# Altium footprint library 调试烧写.PcbLib: 8 footprints
Each footprint in its own frame and in the unit in brackets; x right, y up, seen from the top. Pads: shape width x height; smd on the part's side, far side on the other; paste and mask are expansions set on the pad; w line width, h text height; cw(c..) or ccw(c..) is an arc to the next point about the centre after c.
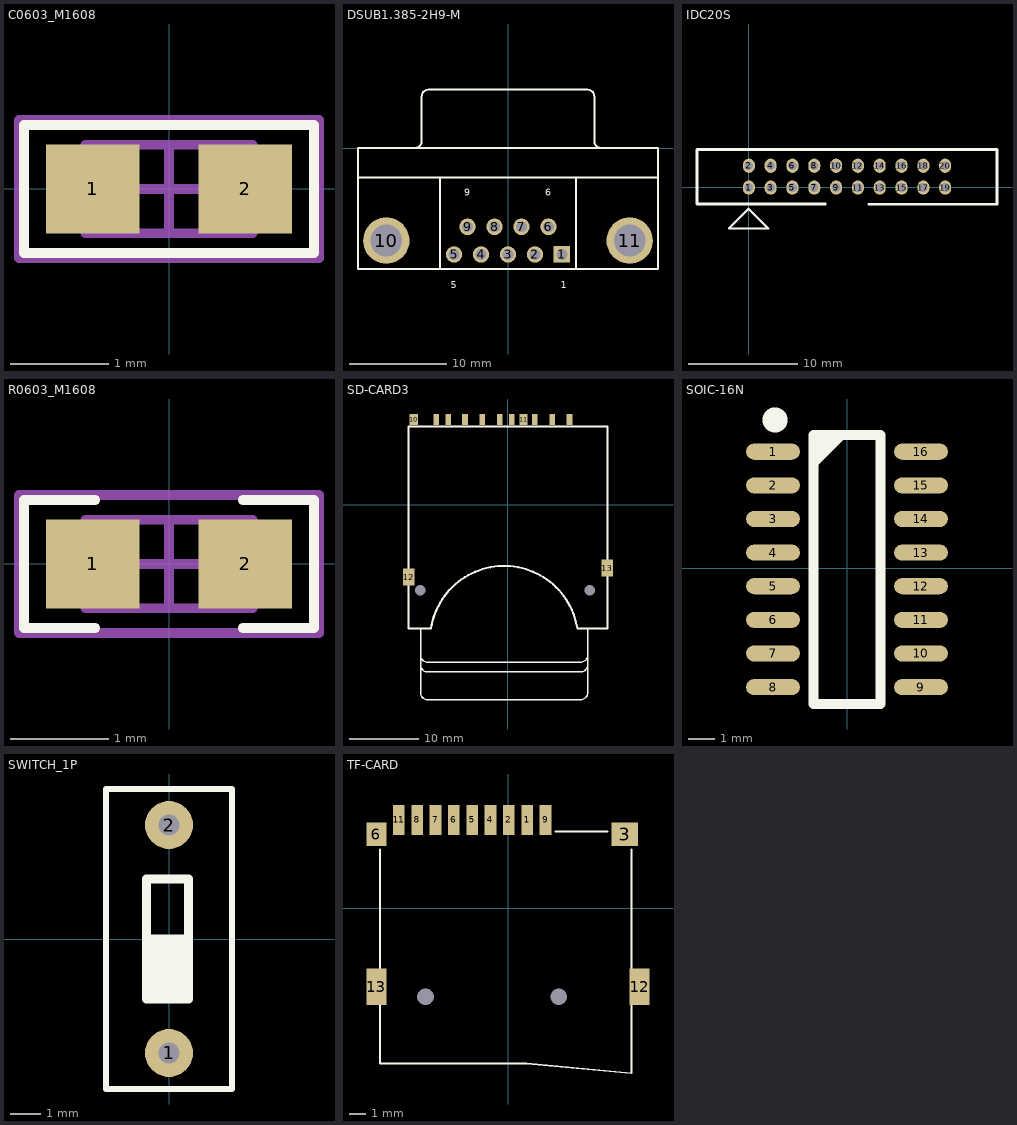
[diagram p0: the footprints below, top view; thin cyan lines are the x and y axes]

## C0603_M1608 [mm] "Chip Capacitor, 2-Leads, Body 1.6x0.8mm, IPC Medium Density"
height 0.55
pads (2):
  rect 0.95x0.9 smd: 1(-0.775,0) 2(0.775,0)
Top Overlay:
  lines w0.1: -1.475,-0.65 -1.475,0.65 1.475,0.65 1.475,-0.65 -1.475,-0.65
Mechanical 13:
  lines w0.1: -0.85,-0.45 0.85,-0.45 0.85,0.45 -0.85,0.45 -0.85,-0.45
Mechanical 15:
  lines w0.1: -0.45,0 0.45,0 ; 0,-0.45 0,0.45 ; -1.525,-0.7 1.525,-0.7 1.525,0.7 -1.525,0.7 -1.525,-0.7
3D body: height 0.55, standoff 0, extent -0.85,-0.45 0.85,0.45

## DSUB1.385-2H9-M [mm] "Connector; D Subminiature; 9 Position; Right Angle; Pitch 1.385 mm"
height 12.75
pads (11):
  rect 1.69x1.69 hole 1.09: 1(5.54,-10.92)
  round 1.69 hole 1.09: 2(2.77,-10.92) 3(0,-10.92) 4(-2.77,-10.92) 5(-5.54,-10.92) 6(4.155,-8.08) 7(1.385,-8.08) 8(-1.385,-8.08) 9(-4.155,-8.08)
  round 4.76 hole 3.26: 10(-12.495,-9.5) 11(12.495,-9.5)
Top Overlay:
  lines w0.2: -15.4,-3 15.4,-3 ; -9.56,0.005 ccw(c-9.56,0.7) -8.865,0.7 -8.865,5.3 ; -8.86,5.305 cw(c-8.165,5.305) -8.165,6 8.165,6 cw(c8.165,5.305) 8.86,5.305 ; -7,-12.4 -7,-3 ; 7,-12.4 7,-3 ; 8.865,5.3 8.865,0.7 ccw(c9.56,0.7) 9.56,0.005 ; -15.4,-12.4 15.4,-12.4 15.4,0 -15.4,0 -15.4,-12.4
  text "6" at 3.8,-4.9 h0.7
  text "9" at -4.5,-4.9 h0.7
  text "5" at -5.9,-14.4 h0.7
  text "1" at 5.4,-14.4 h0.7

## IDC20S [mm]
pads (20):
  oval 1.1x1.3 hole 0.8: 1(0.01,-0.025) 2(0.01,1.975) 3(2.01,-0.025) 4(2.01,1.975) 5(4.01,-0.025) 6(4.01,1.975) 7(6.01,-0.025) 8(6.01,1.975) 9(8.01,-0.025) 10(8.01,1.975) 11(10.01,-0.025) 12(10.01,1.975) 13(12.01,-0.025) 14(12.01,1.975) 15(14.01,-0.025) 16(14.01,1.975) 17(16.01,-0.025) 18(16.01,1.975) 19(18.01,-0.025) 20(18.01,1.975)
Top Overlay:
  lines w0.2: -1.818,-3.783 -0.012,-1.968 1.802,-3.774 -1.818,-3.783
  lines w0.254: 7.01,-1.525 -4.74,-1.525 -4.74,3.475 22.76,3.475 22.76,-1.55 11.01,-1.55

## R0603_M1608 [mm] "Chip Capacitor, 2-Leads, Body 1.6x0.8mm, IPC Medium Density"
height 0.55
pads (2):
  rect 0.95x0.9 smd: 1(-0.775,0) 2(0.775,0)
Top Overlay:
  lines w0.1: -0.75,-0.65 -1.475,-0.65 -1.475,0.65 -0.75,0.65 ; 0.75,-0.65 1.475,-0.65 1.475,0.65 0.75,0.65
Mechanical 13:
  lines w0.1: -0.85,-0.45 0.85,-0.45 0.85,0.45 -0.85,0.45 -0.85,-0.45
Mechanical 15:
  lines w0.1: -0.45,0 0.45,0 ; 0,-0.45 0,0.45 ; -1.525,-0.7 1.525,-0.7 1.525,0.7 -1.525,0.7 -1.525,-0.7
3D body: height 0.55, standoff 0, extent -0.85,-0.45 0.85,0.45

## SD-CARD3 [mm]
pads (15):
  rect 0.8x1.6 smd: 1(6.33,12.25) 2(3.83,12.25) 3(0.53,12.25) 4(-1.17,12.25) 5(-3.67,12.25) 6(-6.17,12.25) 7(-8.6,12.25) 8(-10.3,12.25) 9(8.83,12.25)
  rect 1.2x1.6 smd: 10(-13.55,12.25) 11(2.23,12.25)
  rect 1.6x2.4 smd: 12(-14.25,-10.35) 13(14.25,-9.05)
  round 1 hole 1.5: 14(-12.6,-12.25) 15(11.7,-12.25)
Top Overlay:
  lines w0.2: -12.55,-22.95 ccw(c-11.55,-22.95) -11.55,-23.95 10.45,-23.95 ccw(c10.45,-22.95) 11.45,-22.95 ; -12.55,-21.55 ccw(c-11.55,-21.55) -11.55,-22.55 10.45,-22.55 ccw(c10.45,-21.55) 11.45,-21.55 ; -12.55,-17.75 -12.55,-26.95 ccw(c-11.55,-26.95) -11.55,-27.95 10.45,-27.95 ccw(c10.45,-26.95) 11.45,-26.95 11.45,-17.75
  lines w0.3: -11.05,-17.75 -14.3,-17.75 -14.3,11.25 14.3,11.25 14.3,-17.75 9.95,-17.75 ; -11.05,-17.748 cw(c-0.55,-19.374) 9.95,-17.748

## SOIC-16N [mil]
height 200
pads (16):
  oval 80x24 smd: 1(-110.24,173.23) 2(-110.24,123.23) 3(-110.24,73.23) 4(-110.24,23.23) 5(-110.24,-26.77) 6(-110.24,-76.77) 7(-110.24,-126.77) 8(-110.24,-176.77) 9(109.76,-176.77) 10(109.76,-126.77) 11(109.76,-76.77) 12(109.76,-26.77) 13(109.76,23.23) 14(109.76,73.23) 15(109.76,123.23) 16(109.76,173.23)
Top Overlay:
  circle w19.68: c-107.23,220.47 r8.8
  region: -43.31,192.91 -3.94,192.91 -43.31,153.54
  lines w15: -50.24,-201.77 49.76,-201.77 49.76,198.23 -50.24,198.23 -50.24,-201.77

## SWITCH_1P [mm]
pads (2):
  round 1.6 hole 0.7: 1(0,-3.8) 2(0,3.8)
Top Overlay:
  lines w0.2: -2.1,-5 -2.1,5 2.1,5 2.1,-5 -2.1,-5
  lines w0.3: -0.75,0 0.65,0 ; -0.75,0 -0.75,-2 0.65,-2 0.65,0 ; -0.75,0 0.65,0 ; -0.75,0 -0.75,2 0.65,2 0.65,0
  lines w1: -0.25,-1.5 0.25,-1.5 0.25,-0.5 -0.25,-0.5 -0.25,-1.5

## TF-CARD [mm]
pads (15):
  round 0 hole 1 unplated: 0(-4.95,-5.312) 0(3.05,-5.312)
  rect 0.7x1.8 smd: 1(1.15,5.313) 2(0.05,5.313) 4(-1.05,5.313) 5(-2.15,5.313) 6(-3.25,5.313) 7(-4.35,5.313) 8(-5.45,5.313) 9(2.25,5.313) 11(-6.55,5.313)
  rect 1.6x1.4 smd: 3(7,4.438)
  rect 1.2x1.4 smd: 6(-7.9,4.438)
  rect 1.2x2.2 smd: 12(7.9,-4.712) 13(-7.9,-4.712)
Top Overlay:
  lines w0.1: -7.681,3.545 -7.681,-9.312 1.132,-9.312 7.406,-9.896 ; 2.845,4.612 5.994,4.612 ; 7.406,-9.896 7.406,3.545